# EAGLE library part DRV10970PWPR (library DRV10970PWPR)
20W, 12V 3-phase sensored BLDC motor driver with single/3halls supported Source: Datasheet <http://www.ti.com/lit/gpn/drv10970>
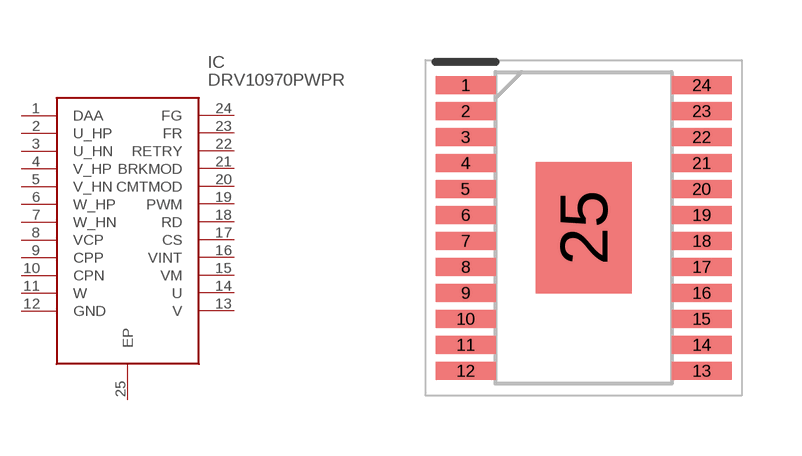
[diagram p0: symbol with the pads of SOP65P640X120-25N; footprint SOP65P640X120-25N]

Designator prefix IC

## DRV10970PWPR (Description: 20W, 12V 3-phase sensored BLDC motor driver with single/3halls supported; Height: 1.2mm; Manufacturer_Name: Texas Instruments; Manufacturer_Part_Number: DRV10970PWPR; Mouser_Part_Number: 595-DRV10970PWPR; Mouser_Price-Stock: https://www.mouser.co.uk/ProductDetail/Texas-Instruments/DRV10970PWPR?qs=F66ExNIg9rr34PKt6FmsTg%3D%3D)  [SOP65P640X120-25N]
1  DAA
2  U_HP
3  U_HN
4  V_HP
5  V_HN
6  W_HP
7  W_HN
8  VCP
9  CPP
10  CPN
11  W
12  GND
13  V
14  U
15  VM
16  VINT
17  CS
18  RD
19  PWM
20  CMTMOD
21  BRKMOD
22  RETRY
23  FR
24  FG
25  EP

## Footprint SOP65P640X120-25N (pad centres in mm)
PWP (R-PDSO-G24)_3
smd 1.5 x 0.45: 1 -2.95,3.575; 2 -2.95,2.925; 3 -2.95,2.275; 4 -2.95,1.625; 5 -2.95,0.975; 6 -2.95,0.325; 7 -2.95,-0.325; 8 -2.95,-0.975; 9 -2.95,-1.625; 10 -2.95,-2.275; 11 -2.95,-2.925; 12 -2.95,-3.575; 13 2.95,-3.575; 14 2.95,-2.925; 15 2.95,-2.275; 16 2.95,-1.625; 17 2.95,-0.975; 18 2.95,-0.325; 19 2.95,0.325; 20 2.95,0.975; 21 2.95,1.625; 22 2.95,2.275; 23 2.95,2.925; 24 2.95,3.575
smd 2.4 x 3.28: 25 0,0